# Altium integrated library Cap_Kemet_T491C226K025AT_22uF.IntLib: 1 symbol
Pins are listed as number, name and electrical type; pins without a type are passive.

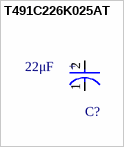
[diagram p0: symbol T491C226K025AT]

## T491C226K025AT
designator C?  (value not drawn)
pins: 1 C, 2 A
text: +; 22μF